# EAGLE library part HMC5883L (library barthess)
3 Axis Digital Compass IC
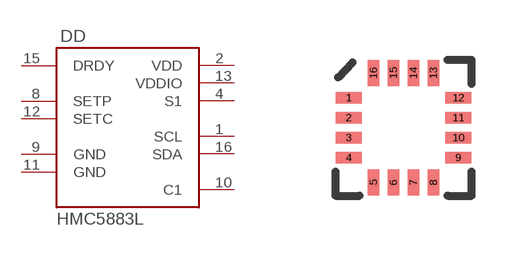
[diagram p16: symbol with the pads of 16LPCC; footprint 16LPCC]

Designator prefix DD

## HMC5883L  [16LPCC]
1  SCL  oc
2  VDD  pwr
4  S1
8  SETP
9  GND  pwr
10  C1
11  GND  pwr
12  SETC
13  VDDIO  pwr
15  DRDY  out
16  SDA  oc

## Footprint 16LPCC (pad centres in mm)
smd 0.65 x 0.28: 1 -1.37,0.75; 2 -1.37,0.25; 3 -1.37,-0.25; 4 -1.37,-0.75; 9 1.37,-0.75; 10 1.37,-0.25; 11 1.37,0.25; 12 1.37,0.75
smd 0.28 x 0.65: 5 -0.75,-1.37; 6 -0.25,-1.37; 7 0.25,-1.37; 8 0.75,-1.37; 13 0.75,1.37; 14 0.25,1.37; 15 -0.25,1.37; 16 -0.75,1.37